# Altium footprint library 0603_LED.PcbLib: 1 footprints
Each footprint in its own frame and in the unit in brackets; x right, y up, seen from the top. Pads: shape width x height; smd on the part's side, far side on the other; paste and mask are expansions set on the pad; w line width, h text height; cw(c..) or ccw(c..) is an arc to the next point about the centre after c.
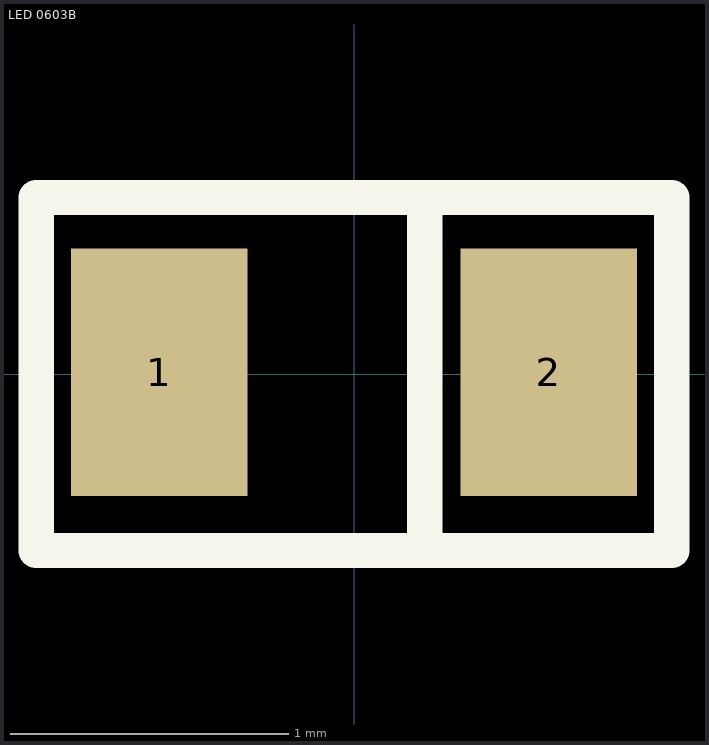
[diagram p0: the footprint, top view; thin cyan lines are the x and y axes]

## LED 0603B [mil] "蓝色0603LED"
pads (2):
  rect 25x35 smd mask+0: 1(-27.56,0.26) 2(27.56,0.26)
Top Overlay:
  lines w5: 10,-25 10,25 ; -45,-25 -45,25 45,25 45,-25 -45,-25
3D body "LED 0603玻璃罩.": height 0, standoff 0, extent 0,0 0,0
3D body "LED 0603-G.STEP": height 18.36, standoff -0.16, extent -31.49,-15.79 31.5,15.79